# Altium footprint library 5A_BRULA,Tomas.PcbLib: 94 footprints (part 5 of 6)
Each footprint in its own frame and in the unit in brackets; x right, y up, seen from the top. Pads: shape width x height; smd on the part's side, far side on the other; paste and mask are expansions set on the pad; w line width, h text height; cw(c..) or ccw(c..) is an arc to the next point about the centre after c.
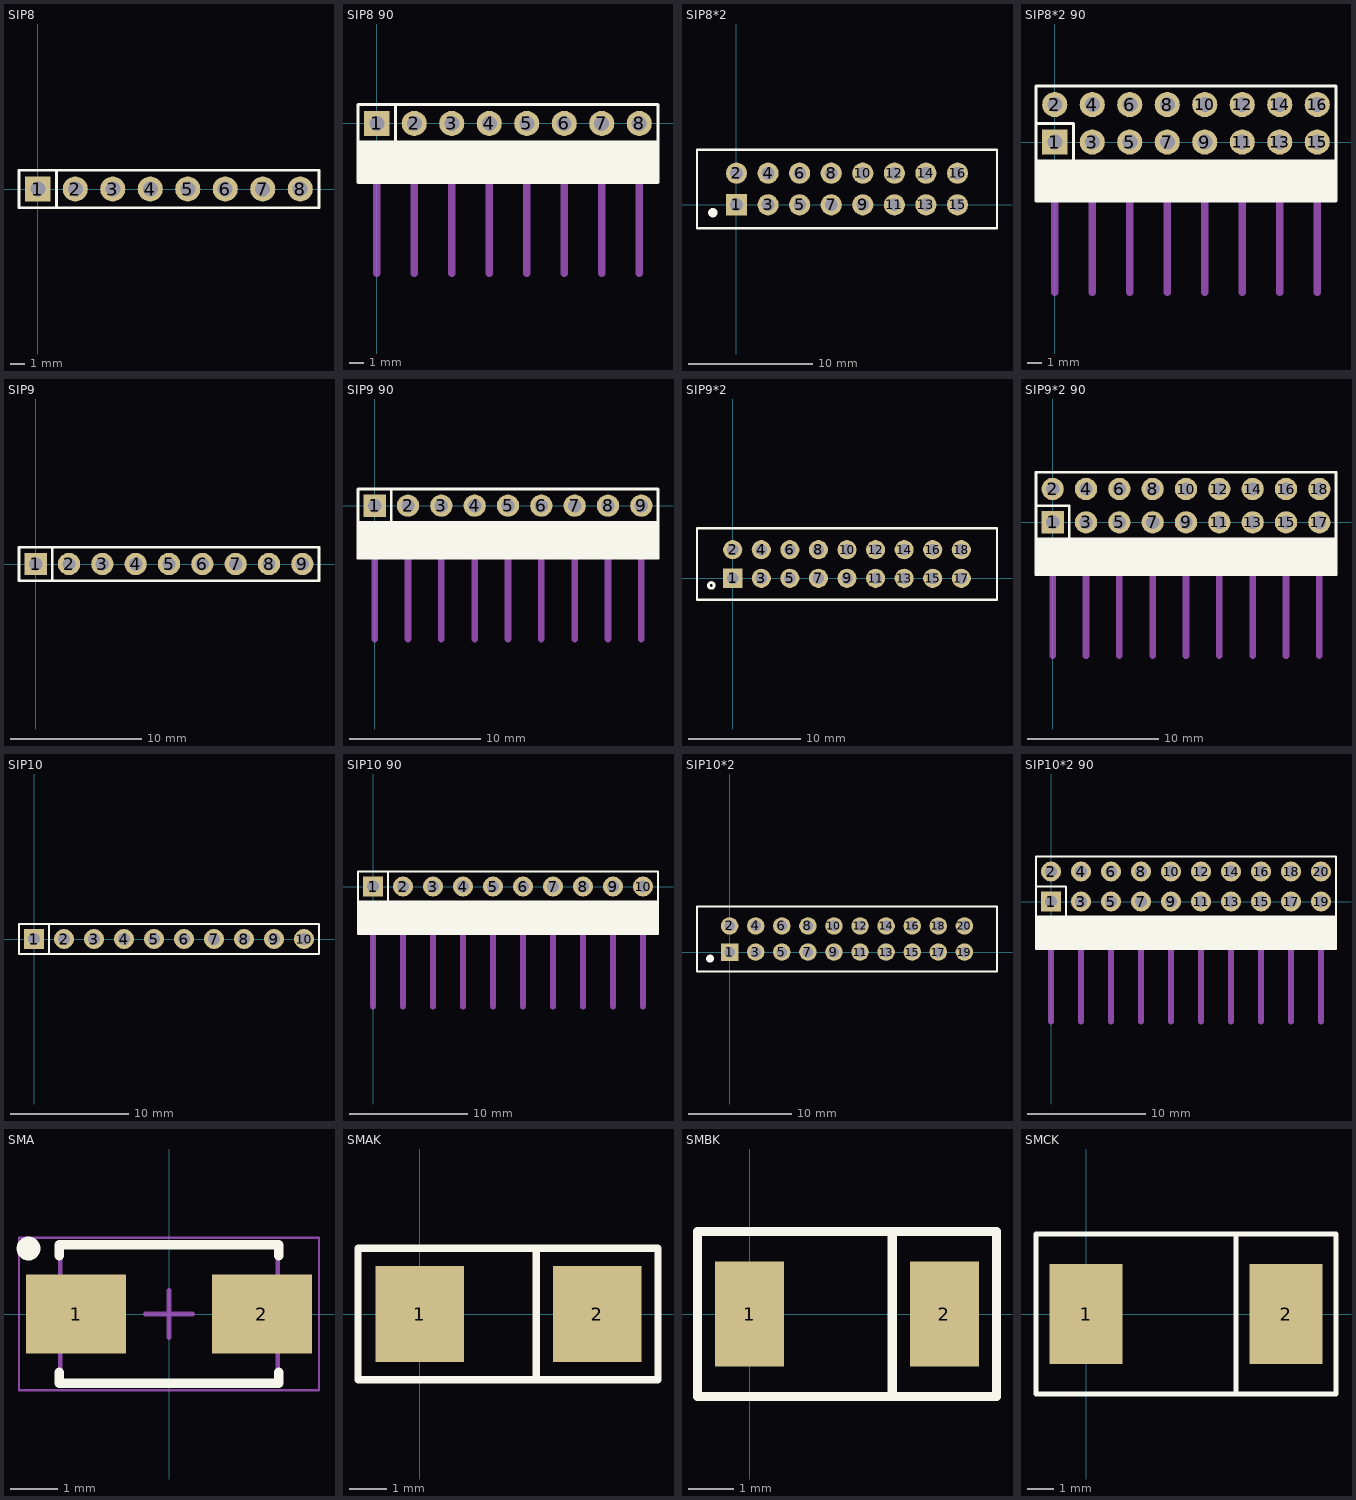
[diagram p4: the footprints below, top view; thin cyan lines are the x and y axes]

## SIP8 [mm]
pads (8):
  rect 1.7x1.7 hole 1.016: 1(0,0)
  round 1.7 hole 1.016: 2(2.54,0) 3(5.08,0) 4(7.62,0) 5(10.16,0) 6(12.7,0) 7(15.24,0) 8(17.78,0)
Top Overlay:
  lines w0.2: 1.27,-1.27 1.27,1.27 ; -1.27,-1.27 19.05,-1.27 19.05,1.27 -1.27,1.27 -1.27,-1.27
3D body "SIP4.step": height 8.38, standoff -2.54, extent 8.89,-1.27 19.05,1.27
3D body "SIP4.step": height 8.38, standoff -2.54, extent -1.27,-1.27 8.89,1.27

## SIP8 90 [mm]
pads (8):
  rect 1.7x1.7 hole 1.016: 1(0,0)
  round 1.7 hole 1.016: 2(2.54,0) 3(5.08,0) 4(7.62,0) 5(10.16,0) 6(12.7,0) 7(15.24,0) 8(17.78,0)
Top Overlay:
  rectangle: 16.51,-4 19.05,-1.27
  rectangle: 13.97,-4 16.51,-1.27
  rectangle: 11.43,-4 13.97,-1.27
  rectangle: 8.89,-4 11.43,-1.27
  rectangle: 6.35,-4 8.89,-1.27
  rectangle: 3.81,-4 6.35,-1.27
  rectangle: 1.27,-4 3.81,-1.27
  rectangle: -1.27,-4 1.27,-1.27
  lines w0.2: 1.27,1.27 1.27,-1.27 ; -1.27,-1.27 -1.27,-4 1.27,-4 ; -1.27,-1.27 19.05,-1.27 ; -1.27,-1.27 -1.27,1.27 19.05,1.27 19.05,-1.27 ; 1.27,-4 3.81,-4 ; 1.27,-4 1.27,-1.27 ; 1.27,-4 1.27,-1.27 ; 3.81,-4 6.35,-4 ; 3.81,-4 3.81,-1.27 3.81,-4 ; 6.35,-4 8.89,-4 ; 6.35,-4 6.35,-1.27 6.35,-4 ; 8.89,-4 11.43,-4 ; 8.89,-4 8.89,-1.27 8.89,-4 ; 11.43,-4 13.97,-4 ; 11.43,-4 11.43,-1.27 11.43,-4 ; 13.97,-4 16.51,-4 ; 13.97,-4 13.97,-1.27 13.97,-4 ; 16.51,-4 19.05,-4 19.05,-1.27 ; 16.51,-4 16.51,-1.27 16.51,-4
Mechanical 1:
  lines w0.508: 0,-10.16 0,-4.064 ; 2.54,-10.16 2.54,-4.064 ; 5.08,-10.16 5.08,-4.064 ; 7.62,-10.16 7.62,-4.064 ; 10.16,-10.16 10.16,-4.064 ; 12.7,-10.16 12.7,-4.064 ; 15.24,-10.16 15.24,-4.064 ; 17.78,-10.16 17.78,-4.064
3D body "User Library-m0003083.step": height 3.76, standoff -4.72, extent 13.97,-9.938 19.05,0.286
3D body "User Library-m0003083.step": height 3.76, standoff -4.72, extent 8.89,-9.938 13.97,0.286
3D body "User Library-m0003083.step": height 3.76, standoff -4.72, extent 3.81,-9.938 8.89,0.286
3D body "User Library-m0003083.step": height 3.76, standoff -4.72, extent -1.27,-9.938 3.81,0.286

## SIP8*2 [mm]
pads (16):
  rect 1.7x1.7 hole 1.016: 1(0,0)
  round 1.7 hole 1.016: 2(0,2.54) 3(2.54,0) 4(2.54,2.54) 5(5.08,0) 6(5.08,2.54) 7(7.62,0) 8(7.62,2.54) 9(10.16,0) 10(10.16,2.54) 11(12.7,0) 12(12.7,2.54) 13(15.24,0) 14(15.24,2.54) 15(17.78,0) 16(17.78,2.54)
Top Overlay:
  circle w0.254: c-1.993,-0.635 r0.125
  circle w0.254: c-1.905,-0.635 r0.254
  lines w0.2: -3.175,-1.905 -3.175,4.445 20.955,4.445 20.955,-1.905 -3.175,-1.905
3D body "SIP3_2.step": height 10.1, standoff -1.5, extent 11.438,-1.295 19.058,3.785
3D body "SIP3_2.step": height 10.1, standoff -1.5, extent 3.818,-1.295 11.438,3.785
3D body "SIP3_2.step": height 10.1, standoff -1.5, extent -1.262,-1.295 6.358,3.785

## SIP8*2 90 [mm]
pads (16):
  rect 1.7x1.7 hole 1.016: 1(0,0)
  round 1.7 hole 1.016: 2(0,2.54) 3(2.54,0) 4(2.54,2.54) 5(5.08,0) 6(5.08,2.54) 7(7.62,0) 8(7.62,2.54) 9(10.16,0) 10(10.16,2.54) 11(12.7,0) 12(12.7,2.54) 13(15.24,0) 14(15.24,2.54) 15(17.78,0) 16(17.78,2.54)
Top Overlay:
  rectangle: -1.27,-4 1.27,-1.27
  rectangle: 1.27,-4 3.81,-1.27
  rectangle: 3.81,-4 6.35,-1.27
  rectangle: 6.35,-4 8.89,-1.27
  rectangle: 8.89,-4 11.43,-1.27
  rectangle: 11.43,-4 13.97,-1.27
  rectangle: 13.97,-4 16.51,-1.27
  rectangle: 16.51,-4 19.05,-1.27
  lines w0.2: -1.27,1.27 1.27,1.27 1.27,-1.27 ; -1.27,-1.27 -1.27,3.81 19.05,3.81 19.05,-1.27 ; -1.27,-1.27 19.05,-1.27 ; -1.27,-1.27 -1.27,-4 1.27,-4 ; 1.27,-4 1.27,-1.27 ; 1.27,-4 1.27,-1.27 ; 1.27,-4 3.81,-4 ; 3.81,-4 3.81,-1.27 3.81,-4 ; 3.81,-4 6.35,-4 ; 6.35,-4 6.35,-1.27 6.35,-4 ; 6.35,-4 8.89,-4 ; 8.89,-4 8.89,-1.27 8.89,-4 ; 8.89,-4 11.43,-4 ; 11.43,-4 11.43,-1.27 11.43,-4 ; 11.43,-4 13.97,-4 ; 13.97,-4 13.97,-1.27 13.97,-4 ; 13.97,-4 16.51,-4 ; 16.51,-4 16.51,-1.27 16.51,-4 ; 16.51,-4 19.05,-4 19.05,-1.27
Mechanical 1:
  lines w0.508: 0,-10.16 0,-4.064 ; 2.54,-10.16 2.54,-4.064 ; 5.08,-10.16 5.08,-4.064 ; 7.62,-10.16 7.62,-4.064 ; 10.16,-10.16 10.16,-4.064 ; 12.7,-10.16 12.7,-4.064 ; 15.24,-10.16 15.24,-4.064 ; 17.78,-10.16 17.78,-4.064
3D body "pin_header_awl254-da-g04d.stp": height 5.1, standoff -2.9, extent -1.27,-10.086 3.81,2.794
3D body "pin_header_awl254-da-g04d.stp": height 5.1, standoff -2.9, extent 3.81,-10.086 8.89,2.794
3D body "pin_header_awl254-da-g04d.stp": height 5.1, standoff -2.9, extent 8.89,-10.086 13.97,2.794
3D body "pin_header_awl254-da-g04d.stp": height 5.1, standoff -2.9, extent 13.97,-10.086 19.05,2.794

## SIP9 [mm]
pads (9):
  rect 1.7x1.7 hole 1.016: 1(0,0)
  round 1.7 hole 1.016: 2(2.54,0) 3(5.08,0) 4(7.62,0) 5(10.16,0) 6(12.7,0) 7(15.24,0) 8(17.78,0) 9(20.32,0)
Top Overlay:
  lines w0.2: 1.27,-1.27 1.27,1.27 ; -1.27,-1.27 -1.27,1.27 21.59,1.27 21.59,-1.27 -1.27,-1.27
3D body "SIP3.step": height 8.38, standoff -2.54, extent -1.27,-1.295 6.35,1.245
3D body "SIP3.step": height 8.38, standoff -2.54, extent 6.35,-1.295 13.97,1.245
3D body "SIP3.step": height 8.38, standoff -2.54, extent 13.97,-1.295 21.59,1.245

## SIP9 90 [mm]
pads (9):
  rect 1.7x1.7 hole 1.016: 1(0,0)
  round 1.7 hole 1.016: 2(2.54,0) 3(5.08,0) 4(7.62,0) 5(10.16,0) 6(12.7,0) 7(15.24,0) 8(17.78,0) 9(20.32,0)
Top Overlay:
  rectangle: -1.27,-4 1.27,-1.27
  rectangle: 1.27,-4 3.81,-1.27
  rectangle: 3.81,-4 6.35,-1.27
  rectangle: 6.35,-4 8.89,-1.27
  rectangle: 8.89,-4 11.43,-1.27
  rectangle: 11.43,-4 13.97,-1.27
  rectangle: 13.97,-4 16.51,-1.27
  rectangle: 16.51,-4 19.05,-1.27
  rectangle: 19.05,-4 21.59,-1.27
  lines w0.2: 1.27,1.27 1.27,-1.27 ; -1.27,-1.27 21.59,-1.27 ; -1.27,-1.27 -1.27,1.27 21.59,1.27 21.59,-1.27 ; -1.27,-1.27 -1.27,-4 1.27,-4 ; 1.27,-4 1.27,-1.27 ; 1.27,-4 1.27,-1.27 ; 1.27,-4 3.81,-4 ; 3.81,-4 3.81,-1.27 3.81,-4 ; 3.81,-4 6.35,-4 ; 6.35,-4 6.35,-1.27 6.35,-4 ; 6.35,-4 8.89,-4 ; 8.89,-4 8.89,-1.27 8.89,-4 ; 8.89,-4 11.43,-4 ; 11.43,-4 11.43,-1.27 11.43,-4 ; 11.43,-4 13.97,-4 ; 13.97,-4 13.97,-1.27 13.97,-4 ; 13.97,-4 16.51,-4 ; 16.51,-4 16.51,-1.27 16.51,-4 ; 16.51,-4 19.05,-4 ; 19.05,-4 19.05,-1.27 19.05,-4 ; 19.05,-4 21.59,-4 21.59,-1.27
Mechanical 1:
  lines w0.508: 0,-10.16 0,-4.064 ; 2.54,-10.16 2.54,-4.064 ; 5.08,-10.16 5.08,-4.064 ; 7.62,-10.16 7.62,-4.064 ; 10.16,-10.16 10.16,-4.064 ; 12.7,-10.16 12.7,-4.064 ; 15.24,-10.16 15.24,-4.064 ; 17.78,-10.16 17.78,-4.064 ; 20.32,-10.16 20.32,-4.064
3D body "User Library-m0003083.step": height 3.76, standoff -4.72, extent 16.51,-9.938 21.59,0.286
3D body "User Library-m0003083.step": height 3.76, standoff -4.72, extent 13.97,-9.938 19.05,0.286
3D body "User Library-m0003083.step": height 3.76, standoff -4.72, extent 8.89,-9.938 13.97,0.286
3D body "User Library-m0003083.step": height 3.76, standoff -4.72, extent 3.81,-9.938 8.89,0.286
3D body "User Library-m0003083.step": height 3.76, standoff -4.72, extent -1.27,-9.938 3.81,0.286

## SIP9*2 [mm]
pads (18):
  rect 1.7x1.7 hole 1.016: 1(0,0)
  round 1.7 hole 1.016: 2(0,2.54) 3(2.54,0) 4(2.54,2.54) 5(5.08,0) 6(5.08,2.54) 7(7.62,0) 8(7.62,2.54) 9(10.16,0) 10(10.16,2.54) 11(12.7,0) 12(12.7,2.54) 13(15.24,0) 14(15.24,2.54) 15(17.78,0) 16(17.78,2.54) 17(20.32,0) 18(20.32,2.54)
Top Overlay:
  circle w0.254: c-1.905,-0.635 r0.254
  lines w0.2: -3.175,-1.905 23.495,-1.905 23.495,4.445 -3.175,4.445 -3.175,-1.905
3D body "SIP3_2.step": height 10.1, standoff -1.5, extent 13.978,-1.295 21.598,3.785
3D body "SIP3_2.step": height 10.1, standoff -1.5, extent 6.358,-1.295 13.978,3.785
3D body "SIP3_2.step": height 10.1, standoff -1.5, extent -1.262,-1.295 6.358,3.785

## SIP9*2 90 [mm]
pads (18):
  rect 1.7x1.7 hole 1.016: 1(0,0)
  round 1.7 hole 1.016: 2(0,2.54) 3(2.54,0) 4(2.54,2.54) 5(5.08,0) 6(5.08,2.54) 7(7.62,0) 8(7.62,2.54) 9(10.16,0) 10(10.16,2.54) 11(12.7,0) 12(12.7,2.54) 13(15.24,0) 14(15.24,2.54) 15(17.78,0) 16(17.78,2.54) 17(20.32,0) 18(20.32,2.54)
Top Overlay:
  rectangle: 19.05,-4 21.59,-1.27
  rectangle: 16.51,-4 19.05,-1.27
  rectangle: 13.97,-4 16.51,-1.27
  rectangle: 11.43,-4 13.97,-1.27
  rectangle: 8.89,-4 11.43,-1.27
  rectangle: 6.35,-4 8.89,-1.27
  rectangle: 3.81,-4 6.35,-1.27
  rectangle: 1.27,-4 3.81,-1.27
  rectangle: -1.27,-4 1.27,-1.27
  lines w0.2: -1.27,1.27 1.27,1.27 1.27,-1.27 ; -1.27,-1.27 -1.27,-4 1.27,-4 ; -1.27,-1.27 -1.27,3.81 21.59,3.81 21.59,-1.27 ; -1.27,-1.27 21.59,-1.27 ; 1.27,-4 3.81,-4 ; 1.27,-4 1.27,-1.27 ; 1.27,-4 1.27,-1.27 ; 3.81,-4 6.35,-4 ; 3.81,-4 3.81,-1.27 3.81,-4 ; 6.35,-4 8.89,-4 ; 6.35,-4 6.35,-1.27 6.35,-4 ; 8.89,-4 11.43,-4 ; 8.89,-4 8.89,-1.27 8.89,-4 ; 11.43,-4 13.97,-4 ; 11.43,-4 11.43,-1.27 11.43,-4 ; 13.97,-4 16.51,-4 ; 13.97,-4 13.97,-1.27 13.97,-4 ; 16.51,-4 19.05,-4 ; 16.51,-4 16.51,-1.27 16.51,-4 ; 19.05,-4 21.59,-4 21.59,-1.27 ; 19.05,-4 19.05,-1.27 19.05,-4
Mechanical 1:
  lines w0.508: 0,-10.16 0,-4.064 ; 2.54,-10.16 2.54,-4.064 ; 5.08,-10.16 5.08,-4.064 ; 7.62,-10.16 7.62,-4.064 ; 10.16,-10.16 10.16,-4.064 ; 12.7,-10.16 12.7,-4.064 ; 15.24,-10.16 15.24,-4.064 ; 17.78,-10.16 17.78,-4.064 ; 20.32,-10.16 20.32,-4.064
3D body "pin_header_awl254-da-g06d.stp": height 5.1, standoff -2.9, extent -1.27,-9.906 6.35,2.974
3D body "pin_header_awl254-da-g06d.stp": height 5.1, standoff -2.9, extent 6.35,-9.906 13.97,2.974
3D body "pin_header_awl254-da-g06d.stp": height 5.1, standoff -2.9, extent 13.97,-9.906 21.59,2.974

## SIP10 [mm]
pads (10):
  rect 1.7x1.7 hole 1.016: 1(0,0)
  round 1.7 hole 1.016: 2(2.54,0) 3(5.08,0) 4(7.62,0) 5(10.16,0) 6(12.7,0) 7(15.24,0) 8(17.78,0) 9(20.32,0) 10(22.86,0)
Top Overlay:
  lines w0.2: 1.27,-1.27 1.27,1.27 ; -1.27,-1.27 24.13,-1.27 24.13,1.27 -1.27,1.27 -1.27,-1.27
3D body "SIP4.step": height 8.38, standoff -2.54, extent 13.97,-1.27 24.13,1.27
3D body "SIP3.step": height 8.38, standoff -2.54, extent -1.27,-1.295 6.35,1.245
3D body "SIP3.step": height 8.38, standoff -2.54, extent 6.35,-1.295 13.97,1.245

## SIP10 90 [mm]
pads (10):
  rect 1.7x1.7 hole 1.016: 1(0,0)
  round 1.7 hole 1.016: 2(2.54,0) 3(5.08,0) 4(7.62,0) 5(10.16,0) 6(12.7,0) 7(15.24,0) 8(17.78,0) 9(20.32,0) 10(22.86,0)
Top Overlay:
  rectangle: 21.59,-4 24.13,-1.27
  rectangle: 19.05,-4 21.59,-1.27
  rectangle: 16.51,-4 19.05,-1.27
  rectangle: 13.97,-4 16.51,-1.27
  rectangle: 11.43,-4 13.97,-1.27
  rectangle: 8.89,-4 11.43,-1.27
  rectangle: 6.35,-4 8.89,-1.27
  rectangle: 3.81,-4 6.35,-1.27
  rectangle: 1.27,-4 3.81,-1.27
  rectangle: -1.27,-4 1.27,-1.27
  lines w0.2: 1.27,1.27 1.27,-1.27 ; -1.27,-1.27 -1.27,-4 1.27,-4 ; -1.27,-1.27 -1.27,1.27 24.13,1.27 24.13,-1.27 ; -1.27,-1.27 24.13,-1.27 ; 1.27,-4 3.81,-4 ; 1.27,-4 1.27,-1.27 ; 1.27,-4 1.27,-1.27 ; 3.81,-4 6.35,-4 ; 3.81,-4 3.81,-1.27 3.81,-4 ; 6.35,-4 8.89,-4 ; 6.35,-4 6.35,-1.27 6.35,-4 ; 8.89,-4 11.43,-4 ; 8.89,-4 8.89,-1.27 8.89,-4 ; 11.43,-4 13.97,-4 ; 11.43,-4 11.43,-1.27 11.43,-4 ; 13.97,-4 16.51,-4 ; 13.97,-4 13.97,-1.27 13.97,-4 ; 16.51,-4 19.05,-4 ; 16.51,-4 16.51,-1.27 16.51,-4 ; 19.05,-4 21.59,-4 ; 19.05,-4 19.05,-1.27 19.05,-4 ; 21.59,-4 24.13,-4 24.13,-1.27 ; 21.59,-4 21.59,-1.27 21.59,-4
Mechanical 1:
  lines w0.508: 0,-10.16 0,-4.064 ; 2.54,-10.16 2.54,-4.064 ; 5.08,-10.16 5.08,-4.064 ; 7.62,-10.16 7.62,-4.064 ; 10.16,-10.16 10.16,-4.064 ; 12.7,-10.16 12.7,-4.064 ; 15.24,-10.16 15.24,-4.064 ; 17.78,-10.16 17.78,-4.064 ; 20.32,-10.16 20.32,-4.064 ; 22.86,-10.16 22.86,-4.064
3D body "User Library-m0003083.step": height 3.76, standoff -4.72, extent 19.05,-9.938 24.13,0.286
3D body "User Library-m0003083.step": height 3.76, standoff -4.72, extent 13.97,-9.938 19.05,0.286
3D body "User Library-m0003083.step": height 3.76, standoff -4.72, extent 8.89,-9.938 13.97,0.286
3D body "User Library-m0003083.step": height 3.76, standoff -4.72, extent 3.81,-9.938 8.89,0.286
3D body "User Library-m0003083.step": height 3.76, standoff -4.72, extent -1.27,-9.938 3.81,0.286

## SIP10*2 [mm]
pads (20):
  rect 1.7x1.7 hole 1.016: 1(0,0)
  round 1.7 hole 1.016: 2(0,2.54) 3(2.54,0) 4(2.54,2.54) 5(5.08,0) 6(5.08,2.54) 7(7.62,0) 8(7.62,2.54) 9(10.16,0) 10(10.16,2.54) 11(12.7,0) 12(12.7,2.54) 13(15.24,0) 14(15.24,2.54) 15(17.78,0) 16(17.78,2.54) 17(20.32,0) 18(20.32,2.54) 19(22.86,0) 20(22.86,2.54)
Top Overlay:
  circle w0.254: c-1.905,-0.635 r0.254
  circle w0.254: c-1.993,-0.635 r0.125
  lines w0.2: -3.175,-1.905 -3.175,4.445 26.035,4.445 26.035,-1.905 -3.175,-1.905
3D body "SIP3_2.step": height 10.1, standoff -1.5, extent -1.262,-1.295 6.358,3.785
3D body "SIP3_2.step": height 10.1, standoff -1.5, extent 16.518,-1.295 24.138,3.785
3D body "SIP3_2.step": height 10.1, standoff -1.5, extent 3.818,-1.295 11.438,3.785
3D body "SIP3_2.step": height 10.1, standoff -1.5, extent 11.438,-1.295 19.058,3.785

## SIP10*2 90 [mm]
pads (20):
  rect 1.7x1.7 hole 1.016: 1(0,0)
  round 1.7 hole 1.016: 2(0,2.54) 3(2.54,0) 4(2.54,2.54) 5(5.08,0) 6(5.08,2.54) 7(7.62,0) 8(7.62,2.54) 9(10.16,0) 10(10.16,2.54) 11(12.7,0) 12(12.7,2.54) 13(15.24,0) 14(15.24,2.54) 15(17.78,0) 16(17.78,2.54) 17(20.32,0) 18(20.32,2.54) 19(22.86,0) 20(22.86,2.54)
Top Overlay:
  rectangle: -1.27,-4 1.27,-1.27
  rectangle: 1.27,-4 3.81,-1.27
  rectangle: 3.81,-4 6.35,-1.27
  rectangle: 6.35,-4 8.89,-1.27
  rectangle: 8.89,-4 11.43,-1.27
  rectangle: 11.43,-4 13.97,-1.27
  rectangle: 13.97,-4 16.51,-1.27
  rectangle: 16.51,-4 19.05,-1.27
  rectangle: 19.05,-4 21.59,-1.27
  rectangle: 21.59,-4 24.13,-1.27
  lines w0.2: -1.27,1.27 1.27,1.27 1.27,-1.27 ; -1.27,-1.27 24.13,-1.27 ; -1.27,-1.27 -1.27,3.81 24.13,3.81 24.13,-1.27 ; -1.27,-1.27 -1.27,-4 1.27,-4 ; 1.27,-4 1.27,-1.27 ; 1.27,-4 1.27,-1.27 ; 1.27,-4 3.81,-4 ; 3.81,-4 3.81,-1.27 3.81,-4 ; 3.81,-4 6.35,-4 ; 6.35,-4 6.35,-1.27 6.35,-4 ; 6.35,-4 8.89,-4 ; 8.89,-4 8.89,-1.27 8.89,-4 ; 8.89,-4 11.43,-4 ; 11.43,-4 11.43,-1.27 11.43,-4 ; 11.43,-4 13.97,-4 ; 13.97,-4 13.97,-1.27 13.97,-4 ; 13.97,-4 16.51,-4 ; 16.51,-4 16.51,-1.27 16.51,-4 ; 16.51,-4 19.05,-4 ; 19.05,-4 19.05,-1.27 19.05,-4 ; 19.05,-4 21.59,-4 ; 21.59,-4 21.59,-1.27 21.59,-4 ; 21.59,-4 24.13,-4 24.13,-1.27
Mechanical 1:
  lines w0.508: 0,-10.16 0,-4.064 ; 2.54,-10.16 2.54,-4.064 ; 5.08,-10.16 5.08,-4.064 ; 7.62,-10.16 7.62,-4.064 ; 10.16,-10.16 10.16,-4.064 ; 12.7,-10.16 12.7,-4.064 ; 15.24,-10.16 15.24,-4.064 ; 17.78,-10.16 17.78,-4.064 ; 20.32,-10.16 20.32,-4.064 ; 22.86,-10.16 22.86,-4.064
3D body "pin_header_awl254-da-g06d.stp": height 5.1, standoff -2.9, extent 16.51,-10.086 24.13,2.794
3D body "pin_header_awl254-da-g04d.stp": height 5.1, standoff -2.9, extent 11.43,-10.086 16.51,2.794
3D body "pin_header_awl254-da-g06d.stp": height 5.1, standoff -2.9, extent 3.81,-10.086 11.43,2.794
3D body "pin_header_awl254-da-g04d.stp": height 5.1, standoff -2.9, extent -1.27,-10.086 3.81,2.794

## SMA [mm] "DIODO SMD"
height 2.2
pads (2):
  rect 2.1x1.65 smd: 1(-1.95,0) 2(1.95,0)
Top Overlay:
  circle w0.25: c-2.95,1.375 r0.125
  lines w0.2: -2.3,-1.225 -2.3,-1.45 2.3,-1.45 2.3,-1.225 ; -2.3,1.225 -2.3,1.45 2.3,1.45 2.3,1.225
Mechanical 13:
  lines w0.1: -2.285,-1.46 2.285,-1.46 2.285,1.46 -2.285,1.46 -2.285,-1.46
Mechanical 15:
  lines w0.05: -3.15,-1.6 3.15,-1.6 3.15,1.6 -3.15,1.6 -3.15,-1.6
  lines w0.1: -0.5,0 0.5,0 ; 0,-0.5 0,0.5
3D body: height 2.2, standoff 0, extent -2.285,-1.46 2.285,1.46

## SMAK [mm]
pads (2):
  rect 2.4x2.6 smd: 1(0,0) 2(4.8,0)
Top Overlay:
  lines w0.2: 3.149,-1.778 3.149,1.778 ; -1.677,-1.778 -1.677,1.778 6.451,1.778 6.451,-1.778 -1.677,-1.778
3D body "SMA.step": height 2.4, standoff 0, extent -0.187,-1.305 5.013,1.295

## SMBK [mm]
pads (2):
  rect 1.52x2.3 smd: 1(0,0) 2(4.27,0)
Top Overlay:
  lines w0.2: 3.127,-1.807 3.127,1.807 ; -1.143,-1.807 -1.143,1.807 5.413,1.807 5.413,-1.807 -1.143,-1.807
3D body "SMB.step": height 2.3, standoff 0, extent -0.559,-1.8 4.841,1.8

## SMCK [mil]
pads (2):
  rect 110x150 smd: 1(0,0) 2(300,0)
Top Overlay:
  lines w7.87: 225,-120 225,120 ; -75,-120 375,-120 375,120 -75,120 -75,-120
3D body "SMC.step": height 90.75, standoff 0, extent -5,-116.14 307.99,116.14